# EAGLE library part CON8 (library jump)
8-pin Thru-hole Header
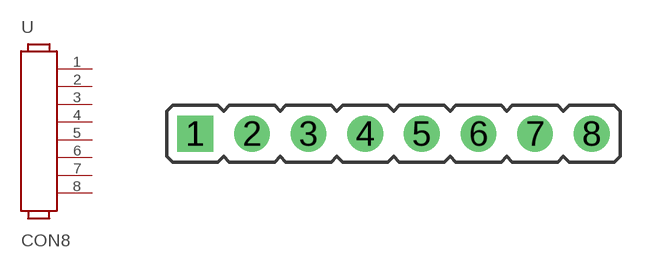
[diagram p5: symbol with the pads of CON8; footprint CON8]

Designator prefix -

## CON8  [CON8]
1  1
2  2
3  3
4  4
5  5
6  6
7  7
8  8

## Footprint CON8 (pad centres in mm)
JUMPER
drill 1.067 square: 1 0,0
drill 1.067 round: 2 2.54,0; 3 5.08,0; 4 7.62,0; 5 10.16,0; 6 12.7,0; 7 15.24,0; 8 17.78,0